# Altium footprint library LTC6820.PcbLib: 2 footprints
Each footprint in its own frame and in the unit in brackets; x right, y up, seen from the top. Pads: shape width x height; smd on the part's side, far side on the other; paste and mask are expansions set on the pad; w line width, h text height; cw(c..) or ccw(c..) is an arc to the next point about the centre after c.
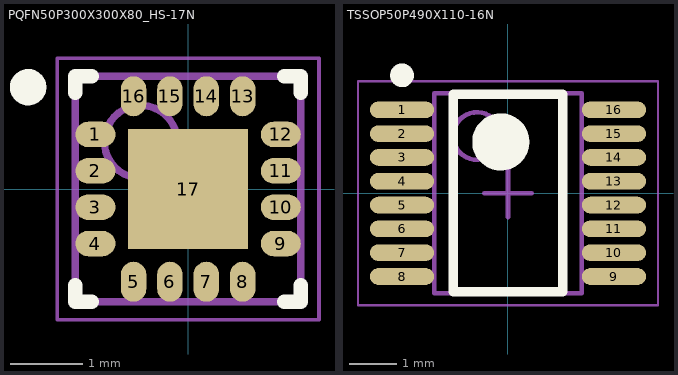
[diagram p0: the footprints below, top view; thin cyan lines are the x and y axes]

## PQFN50P300X300X80_HS-17N [mm] "PQFN, 16-Leads, Body 3.00x3.00mm, Pitch 0.50mm, Thermal Pad 1.65x1.65mm, IPC Medium Density"
height 0.8
pads (17):
  oval 0.55x0.35 smd: 1(-1.275,0.75) 2(-1.275,0.25) 3(-1.275,-0.25) 4(-1.275,-0.75) 9(1.275,-0.75) 10(1.275,-0.25) 11(1.275,0.25) 12(1.275,0.75)
  oval 0.35x0.55 smd: 5(-0.75,-1.275) 6(-0.25,-1.275) 7(0.25,-1.275) 8(0.75,-1.275) 13(0.75,1.275) 14(0.25,1.275) 15(-0.25,1.275) 16(-0.75,1.275)
  rect 1.65x1.65 smd: 17(0,0)
Top Overlay:
  circle w0.25: c-2.2,1.4 r0.125
  lines w0.2: -1.55,-1.325 -1.55,-1.55 -1.325,-1.55 ; -1.55,1.325 -1.55,1.55 -1.325,1.55 ; 1.325,-1.55 1.55,-1.55 1.55,-1.325 ; 1.325,1.55 1.55,1.55 1.55,1.325
Mechanical 13:
  circle w0.1: c-0.65,0.65 r0.5
  lines w0.1: -1.55,-1.55 1.55,-1.55 1.55,1.55 -1.55,1.55 -1.55,-1.55
Mechanical 15:
  lines w0.05: -1.8,-1.8 1.8,-1.8 1.8,1.8 -1.8,1.8 -1.8,-1.8
  lines w0.1: -0.5,0 0.5,0 ; 0,-0.5 0,0.5
3D body "PQFN50P300X300X80_HS-17N.step": height 0.8, standoff 0, extent -1.55,-1.55 1.55,1.55

## TSSOP50P490X110-16N [mm] "TSSOP, 16-Leads, Body 4.05x3.00mm, Pitch 0.50mm, IPC Medium Density"
height 1.1
pads (16):
  oval 1.35x0.35 smd: 1(-2.225,1.75) 2(-2.225,1.25) 3(-2.225,0.75) 4(-2.225,0.25) 5(-2.225,-0.25) 6(-2.225,-0.75) 7(-2.225,-1.25) 8(-2.225,-1.75) 9(2.225,-1.75) 10(2.225,-1.25) 11(2.225,-0.75) 12(2.225,-0.25) 13(2.225,0.25) 14(2.225,0.75) 15(2.225,1.25) 16(2.225,1.75)
Top Overlay:
  circle w0.25: c-2.225,2.475 r0.125
  circle w0.6: c-0.15,1.075 r0.3
  lines w0.2: -1.15,-2.075 -1.15,2.075 1.15,2.075 1.15,-2.075 -1.15,-2.075
Mechanical 13:
  circle w0.1: c-0.65,1.2 r0.5
  lines w0.1: -1.55,-2.1 -1.55,2.1 1.55,2.1 1.55,-2.1 -1.55,-2.1
Mechanical 15:
  lines w0.05: -3.15,-2.35 -3.15,2.35 3.15,2.35 3.15,-2.35 -3.15,-2.35
  lines w0.1: -0.5,0 0.5,0 ; 0,-0.5 0,0.5
3D body "TSSOP50P490X110-16N.step": height 1.1, standoff 0, extent -2.45,-2.1 2.45,2.1